# Altium schematic symbol library IND,22nH,310mA,Wirewound,0402.Schlib: 1 symbol
Pins are listed as number, name and electrical type; pins without a type are passive.

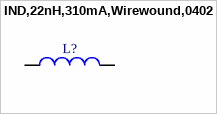
[diagram p0: symbol IND,22nH,310mA,Wirewound,0402]

## IND,22nH,310mA,Wirewound,0402
designator L?
pins: 1, 2